# Altium integrated library Library.IntLib: 3 symbols
Pins are listed as number, name and electrical type; pins without a type are passive.

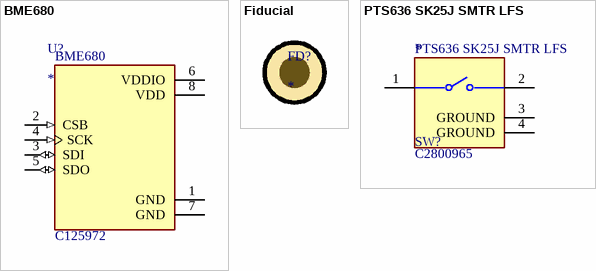
[diagram p0: symbols BME680 to PTS636 SK25J SMTR LFS]

## BME680
designator U?  LCSC Part Number: C125972  Manufacturer Part Number: BME680
Gas, Humidity, Pressure, Temperature Sensor I²C
footprint PSON80P300X300X100-8N
pins: 1 GND (power), 2 CSB (in), 3 SDI (io), 4 SCK (in), 5 SDO (io), 6 VDDIO (power), 7 GND (power), 8 VDD (power)

## Fiducial
designator FD?
Fiducial
footprint FIDUCIAL-1MM (1MM FIDUCAL MARKER)

## PTS636 SK25J SMTR LFS
designator SW?  Manufacturer Part Number: PTS636 SK25J SMTR LFS  LCSC Part Number: C2800965
Tactile Switch SPST-NO Top Actuated Surface Mount
footprint FP-PTS636_SKG25_SMTR_LFS-MFG
pins: 1, 2, 3 GROUND (power), 4 GROUND (power)